# EAGLE library part 93LC46A (library IC_Memory)
1K Microwire Compatible Serial EEPROM Datasheet <http://ww1.microchip.com/downloads/en/DeviceDoc/20001749K.pdf>
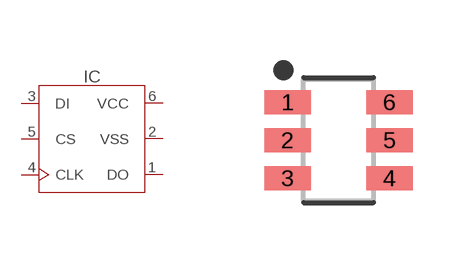
[diagram p0: symbol with the pads of SOT95P280X145-6N; footprint SOT95P280X145-6N]

Designator prefix IC

## 93LC46AAT-I/OT (CATEGORY: IC_Memory; DESCRIPTION: IC EEPROM 1K SPI 2MHZ SOT23-6; MANUFACTURER: Microchip Technology; MPN: 93LC46AT-I/OT; OPERATING_TEMP: -40 to +85°C; PART_STATUS: Active; ROHS_COMPLIANT: RoHS3 Compliant; SUB_CATEGORY: EEPROM; VALUE: 93LC46)  [SOT95P280X145-6N]
1  DO  out
2  VSS  pwr
3  DI  in
4  CLK
5  CS  in
6  VCC  pwr

## Footprint SOT95P280X145-6N (pad centres in mm)
6-SOT23, 0.95 mm pitch, 2.80 mm span, 2.92 X 1.63 X 1.45 mm body 6-pin SOT23 package with 0.95 mm pitch, 2.80 mm span with body size 2.92 X 1.63 X 1.45 mm
smd 1.165 x 0.597: 1 -1.275,0.95; 2 -1.275,0; 3 -1.275,-0.95; 4 1.275,-0.95; 5 1.275,0; 6 1.275,0.95